# Altium schematic symbol library KLPX-0848A-2-B.SchLib: 2 symbols
Pins are listed as number, name and electrical type; pins without a type are passive.

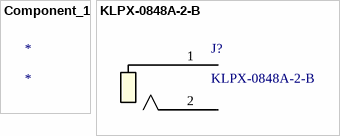
[diagram p0: symbols Component_1 to KLPX-0848A-2-B]

## Component_1
designator *

## KLPX-0848A-2-B
designator J?
No Description Available; Mfr_Name: KYCON, INC.; Copyright: Copyright (C) 2023 Ultra Librarian. All rights reserved.; Manufacturer_Part_Number: KLPX-0848A-2-B; RefDes: RefDes; Type: DEV
footprint KLPX-0848A-2-B_KYC
pins: 1, 2